# EAGLE library part BOX14P (library user_conector)
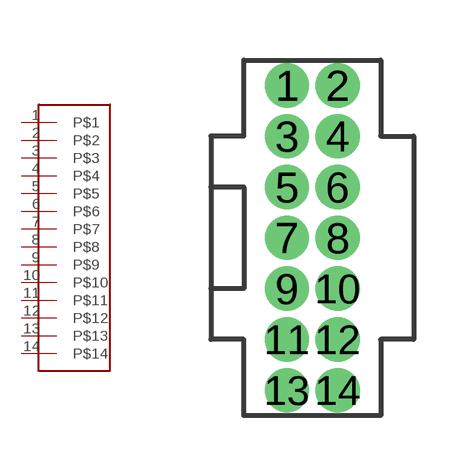
[diagram p5: symbol with the pads of CON_HEDA14P_1.27; footprint CON_HEDA14P_1.27]

Designator prefix -

## BOX14P  [CON_HEDA14P_1.27]
1  P$1
2  P$2
3  P$3
4  P$4
5  P$5
6  P$6
7  P$7
8  P$8
9  P$9
10  P$10
11  P$11
12  P$12
13  P$13
14  P$14

## Footprint CON_HEDA14P_1.27 (pad centres in mm)
drill 0.6: 1 1.08,8.255; 2 2.35,8.255; 3 1.08,6.985; 4 2.35,6.985; 5 1.08,5.715; 6 2.35,5.715; 7 1.08,4.445; 8 2.35,4.445; 9 1.08,3.175; 10 2.35,3.175; 11 1.08,1.905; 12 2.35,1.905; 13 1.08,0.635; 14 2.35,0.635